# EAGLE library part MAX31865 (library Ai_IC)
RTD to Digital Converter The MAX31865 is a resistance-to-digital converter optimized for platinum resistance temperature detectors (RTDs). An external resistor sets the sensitivity for the RTD being used and a delta-sigma ADC converts the ratio of the RTD resistance to the reference resistance into digital form. The MAX31865’s inputs are protected against overvoltage faults up to +/-50V. Programmable detection of RTD and cable open and short conditions is included.
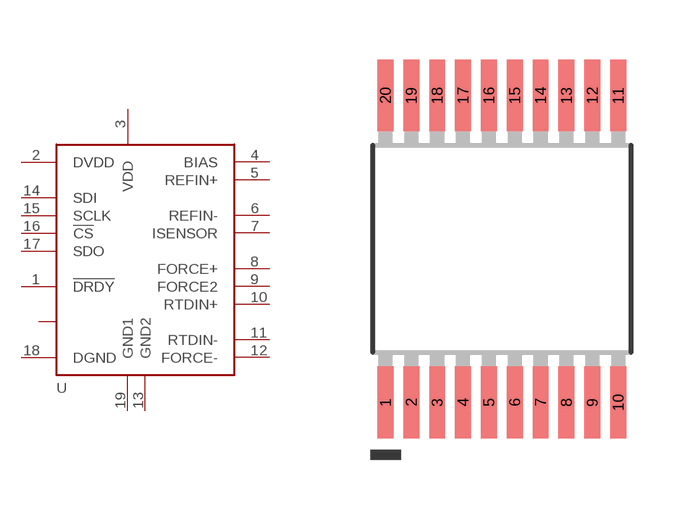
[diagram p26: symbol with the pads of SSOP20; footprint SSOP20]

Designator prefix U

## MAX31865  [SSOP20]
1  !DRDY  out
2  DVDD  pwr
3  VDD  pwr
4  BIAS  in
5  REFIN+  in
6  REFIN-  in
7  ISENSOR  in
8  FORCE+  in
9  FORCE2  in
10  RTDIN+  in
11  RTDIN-  in
12  FORCE-  in
13  GND2  pwr
14  SDI  in
15  SCLK  in
16  !CS  in
17  SDO  out
18  DGND  pwr
19  GND1  pwr

## Footprint SSOP20 (pad centres in mm)
smd 0.4 x 1.8: 1 -2.925,-3.858; 2 -2.275,-3.858; 3 -1.625,-3.858; 4 -0.975,-3.858; 5 -0.325,-3.858; 6 0.325,-3.858; 7 0.975,-3.858; 8 1.625,-3.858; 9 2.275,-3.858; 10 2.925,-3.858; 11 2.925,3.858; 12 2.275,3.858; 13 1.625,3.858; 14 0.975,3.858; 15 0.325,3.858; 16 -0.325,3.858; 17 -0.975,3.858; 18 -1.625,3.858; 19 -2.275,3.858; 20 -2.925,3.858